# Altium footprint library WE-TMSB.PcbLib: 4 footprints
Each footprint in its own frame and in the unit in brackets; x right, y up, seen from the top. Pads: shape width x height; smd on the part's side, far side on the other; paste and mask are expansions set on the pad; w line width, h text height; cw(c..) or ccw(c..) is an arc to the next point about the centre after c.
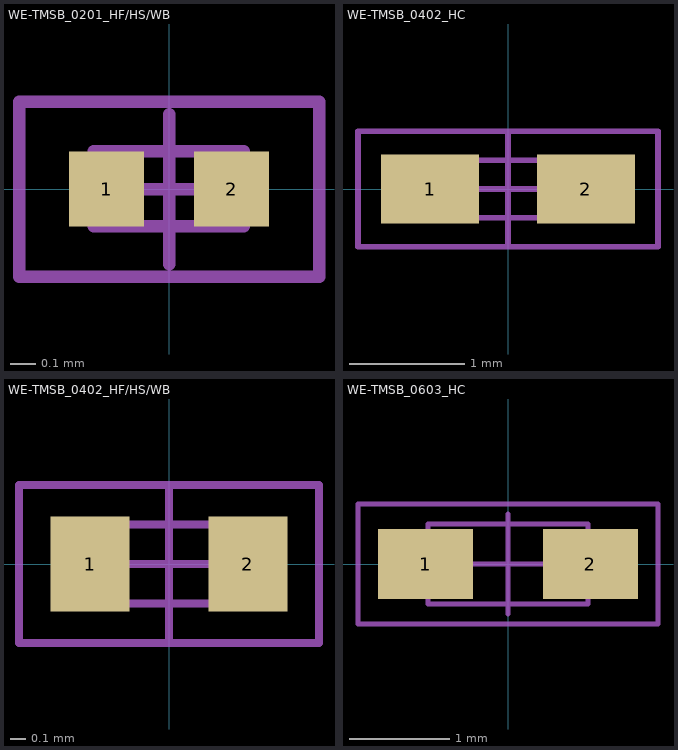
[diagram p0: the footprints below, top view; thin cyan lines are the x and y axes]

## WE-TMSB_0201_HF/HS/WB [mm] "SMT EMI Suppression Ferrite Bead, body 0.60x0.30mm"
height 0.33
pads (2):
  rect 0.3x0.3 smd: 1(-0.25,0) 2(0.25,0)
Top Designator:
  text ".Designator" at -2.499,-0.167 h0.5
Top Component Outline:
  lines w0.05: -0.3,-0.15 -0.3,0.15 0.3,0.15 0.3,-0.15 -0.3,-0.15
Top Courtyard:
  lines w0.05: -0.6,-0.35 -0.6,0.35 0.6,0.35 0.6,-0.35 -0.6,-0.35
Top Component Center:
  lines w0.05: -0.3,0 0.3,0 ; 0,-0.3 0,0.3
3D body "742692xxx.stp": height 0.29, standoff -0.01, extent -0.3,-0.15 0.3,0.15

## WE-TMSB_0402_HC [mm] "SMT EMI Suppression Ferrite Bead, body 1.00x0.50mm"
height 0.5
pads (2):
  rect 0.85x0.6 smd: 1(-0.675,0) 2(0.675,0)
Top Designator:
  text ".Designator" at -2.499,-0.167 h0.5
Top Component Outline:
  lines w0.05: -0.5,-0.25 -0.5,0.25 0.5,0.25 0.5,-0.25 -0.5,-0.25
Top Courtyard:
  lines w0.05: -1.3,-0.5 -1.3,0.5 1.3,0.5 1.3,-0.5 -1.3,-0.5
Top Component Center:
  lines w0.05: -0.5,0 0.5,0 ; 0,-0.5 0,0.5
3D body "WE-TMSB_0402_CBF.stp": height 0.5, standoff 0, extent -0.5,-0.25 0.5,0.25

## WE-TMSB_0402_HF/HS/WB [mm] "SMT EMI Suppression Ferrite Bead, body 1.00x0.50mm"
height 0.55
pads (2):
  rect 0.5x0.6 smd: 1(-0.5,0) 2(0.5,0)
Top Designator:
  text ".Designator" at -2.499,-0.167 h0.5
Top Component Outline:
  lines w0.05: -0.5,-0.25 -0.5,0.25 0.5,0.25 0.5,-0.25 -0.5,-0.25
Top Courtyard:
  lines w0.05: -0.95,-0.5 -0.95,0.5 0.95,0.5 0.95,-0.5 -0.95,-0.5
Top Component Center:
  lines w0.05: -0.5,0 0.5,0 ; 0,-0.5 0,0.5
3D body "WE-TMSB_0402_CBF.stp": height 0.5, standoff 0, extent -0.5,-0.25 0.5,0.25

## WE-TMSB_0603_HC [mm] "SMT EMI Suppression Ferrite Bead, body 1.60x0.80mm"
height 1
pads (2):
  rect 0.95x0.7 smd: 1(-0.825,0) 2(0.825,0)
Top Designator:
  text ".Designator" at -2.499,-0.167 h0.5
Top Component Outline:
  lines w0.05: -0.8,-0.4 -0.8,0.4 0.8,0.4 0.8,-0.4 -0.8,-0.4
Top Courtyard:
  lines w0.05: -1.5,-0.6 -1.5,0.6 1.5,0.6 1.5,-0.6 -1.5,-0.6
Top Component Center:
  lines w0.05: -0.5,0 0.5,0 ; 0,-0.5 0,0.5
3D body "STEP-WE-TMSB-0603-rev1.stp": height 0.8, standoff 0, extent -0.8,-0.4 0.8,0.4